# Altium footprint library Diodes_Transistors.PcbLib: 22 footprints (part 2 of 2)
Each footprint in its own frame and in the unit in brackets; x right, y up, seen from the top. Pads: shape width x height; smd on the part's side, far side on the other; paste and mask are expansions set on the pad; w line width, h text height; cw(c..) or ccw(c..) is an arc to the next point about the centre after c.
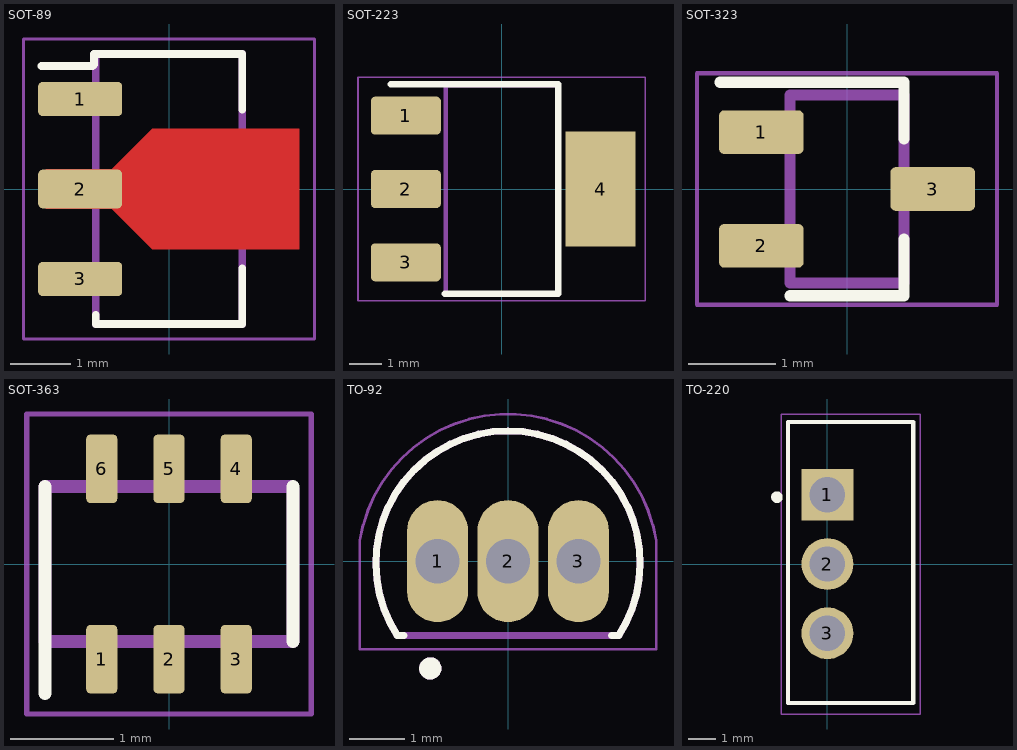
[diagram p1: the footprints below, top view; thin cyan lines are the x and y axes]

## SOT-89 [mm]
pads (3):
  rrect25% 1.4x0.57 smd: 1(-1.48,1.5) 3(-1.48,-1.5)
  rrect25% 1.4x0.65 smd paste-2 mask+0: 2(-1.48,0)
Top Layer:
  region: 2.175,-1 -0.275,-1 -0.95,-0.325 -2.05,-0.325 -2.05,0.325 -0.95,0.325 -0.275,1 2.175,1
Top Overlay:
  lines w0.127: -2.125,2.05 -1.275,2.05 -1.25,2.075 -1.25,2.25 1.222,2.25 1.222,1.32 ; -1.222,-2.1 -1.222,-2.25 1.222,-2.25 1.222,-1.32
Top Paste:
  region: 1.725,-0.633 0.175,-0.633 0.175,0.633 1.725,0.633
  region: -0.95,-0.325 -2.175,-0.325 -2.175,0.325 -0.95,0.325
Top Solder:
  region: 2.275,-1.1 -0.375,-1.1 -1.05,-0.425 -2.275,-0.425 -2.275,0.425 -1.05,0.425 -0.375,1.1 2.275,1.1
Mechanical 13:
  lines w0.127: -1.222,-2.25 -1.222,2.25 1.222,2.25 1.222,-2.25 -1.222,-2.25
Border (Mech15):
  lines w0.05: -2.425,-2.5 -2.425,2.5 2.425,2.5 2.425,-2.5 -2.425,-2.5
3D body "User Library-SOT-89-1.step": height 1.51, standoff 0, extent -2.225,-2.25 2.075,2.25

## SOT-223 [mm]
pads (4):
  rrect25% 2.2x1.2 smd: 1(-3,2.3) 2(-3,0) 3(-3,-2.3)
  rect 2.2x3.6 smd: 4(3.099,0)
Top Overlay:
  lines w0.203: -3.475,3.277 1.778,3.277 1.778,-3.277 -1.778,-3.277
Mechanical 13:
  lines w0.127: -1.75,-3.275 -1.75,3.25 1.775,3.25 1.775,-3.275 -1.75,-3.275
Border (Mech15):
  lines w0.05: -4.5,-3.5 -4.5,3.5 4.5,3.5 4.5,-3.5 -4.5,-3.5
3D body "User Library-SOT223-3.step": height 1.7, standoff 0, extent -3.5,-3.25 3.5,3.25

## SOT-323 [mm]
pads (3):
  rrect25% 0.97x0.5 smd: 1(-0.98,0.65) 2(-0.98,-0.65) 3(0.98,0)
Top Overlay:
  lines w0.127: -1.45,1.22 0.65,1.22 0.65,0.57 ; -0.65,-1.22 0.65,-1.22 0.65,-0.57
Mechanical 13:
  lines w0.127: -0.65,-1.075 -0.65,1.075 0.65,1.075 0.65,-1.075 -0.65,-1.075
Border (Mech15):
  lines w0.05: -1.715,-1.325 1.715,-1.325 1.715,1.325 -1.715,1.325 -1.715,-1.325
3D body "User Library-SOT323 (SC70-3)-1.STEP": height 1.1, standoff 0, extent -1.122,-1.1 1.123,1.1

## SOT-363 [mm]
pads (6):
  rrect25% 0.3x0.66 smd: 1(-0.65,-0.92) 2(0,-0.92) 3(0.65,-0.92) 4(0.65,0.92) 5(0,0.92) 6(-0.65,0.92)
Top Overlay:
  lines w0.127: -1.2,-1.25 -1.2,0.75 ; 1.2,-0.75 1.2,0.75
Mechanical 13:
  lines w0.127: -1.2,-0.75 1.2,-0.75 1.2,0.725 1.175,0.75 -1.2,0.75 -1.2,-0.75
Border (Mech15):
  lines w0.05: -1.375,-1.45 1.375,-1.45 1.375,1.3 1.375,1.45 -1.375,1.45 -1.375,-1.45
3D body "User Library-SOT363-2.step": height 1.1, standoff 0, extent -1.1,-1.2 1.1,1.2

## TO-92 [mm]
pads (3):
  oval 1.1x2.2 hole 0.8: 1(-1.27,0) 2(0,0) 3(1.27,0)
Top Overlay:
  circle w0.2: c-1.4,-1.933 r0.1
  lines w0.127: -1.998,-1.332 cw(c0,-0.034) 1.998,-1.332 ; -1.996,-1.335 -1.872,-1.335 ; 1.87,-1.335 1.996,-1.335
Mechanical 13:
  circle w0.2: c-1.4,-1.933 r0.1
  lines w0.127: -1.998,-1.332 cw(c0,-0.034) 1.998,-1.332 ; -1.996,-1.335 1.996,-1.335
Border (Mech15):
  lines w0.05: -2.67,-1.585 2.67,-1.585 2.67,0.373 ccw(c0,-0.05) -2.67,0.373 -2.67,-1.585
3D body "User Library-TO-92A.step": height 8, standoff -3, extent -2.4,-1.53 2.4,2.4

## TO-220 [mm]
pads (3):
  rect 1.9x1.9 hole 1.3: 1(0,2.54)
  round 1.9 hole 1.3: 2(0,0) 3(0,-2.54)
Top Overlay:
  circle w0.2: c-1.85,2.45 r0.112
  lines w0.152: -1.45,-5.1 3.15,-5.1 3.15,5.207 -1.45,5.207 -1.45,-5.1
Border (Mech15):
  lines w0.05: -1.7,-5.5 3.4,-5.5 3.4,5.5 -1.7,5.5 -1.7,-5.5
3D body "User Library-Transistor TO 220.step": height 17.8, standoff -8, extent -1.4,-5.125 3.1,5.175